# EAGLE library part 788BS-V2 (library ledmatrix-v2)
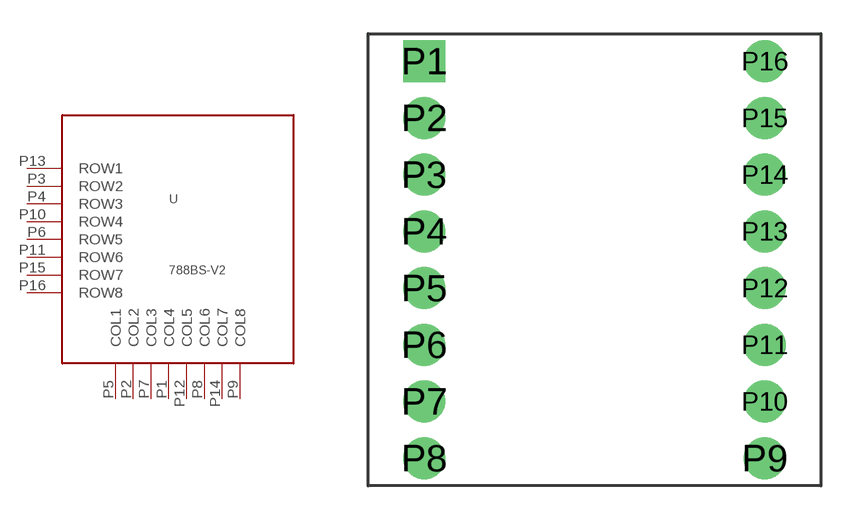
[diagram p0: symbol with the pads of 788BS8X81.9MM-V2; footprint 788BS8X81.9MM-V2]

Designator prefix -

## 788BS-V2  [788BS8X81.9MM-V2]
P1  COL4
P2  COL2
P3  ROW2
P4  ROW3
P5  COL1
P6  ROW5
P7  COL3
P8  COL6
P9  COL8
P10  ROW4
P11  ROW6
P12  COL5
P13  ROW1
P14  COL7
P15  ROW7
P16  ROW8

## Footprint 788BS8X81.9MM-V2 (pad centres in mm)
drill 1.016 pad 1.88 square: P1 0,0
drill 1.016 pad 1.88: P2 0,-2.54; P3 0,-5.08; P4 0,-7.62; P5 0,-10.16; P6 0,-12.7; P7 0,-15.24; P8 0,-17.78; P9 15.24,-17.78; P10 15.24,-15.24; P11 15.24,-12.7; P12 15.24,-10.16; P13 15.24,-7.62; P14 15.24,-5.08; P15 15.24,-2.54; P16 15.24,0